# Altium schematic symbol library LSM6DSV32XTR.SchLib: 1 symbol
Pins are listed as number, name and electrical type; pins without a type are passive.

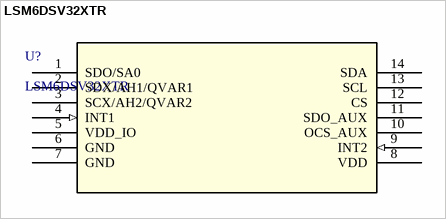
[diagram p0: symbol LSM6DSV32XTR]

## LSM6DSV32XTR
designator U?
6-axis IMU (inertial measurement unit) with 32 g accelerometer and embedded sensor fusion, AI, Qvar for high-end applications; Manufacturer_Name: STMicroelectronics; Type: Motion Sensors; Copyright: Copyright (C) 2026 Ultra Librarian. All rights reserved.; Manufacturer_Part_Number: LSM6DSV32XTR; RefDes: RefDes
footprint LGA-14L_2p5X3p0X0p86_STM
pins: 1 SDO/SA0, 2 SDX/AH1/QVAR1, 3 SCX/AH2/QVAR2, 4 INT1 (in), 5 VDD_IO (power), 6 GND (power), 7 GND (power), 8 VDD (power), 9 INT2 (in), 10 OCS_AUX, 11 SDO_AUX, 12 CS, 13 SCL, 14 SDA